# Altium integrated library ON Semi Signal Management Ambient Light Sensors.IntLib: 9 symbols
Pins are listed as number, name and electrical type; pins without a type are passive.

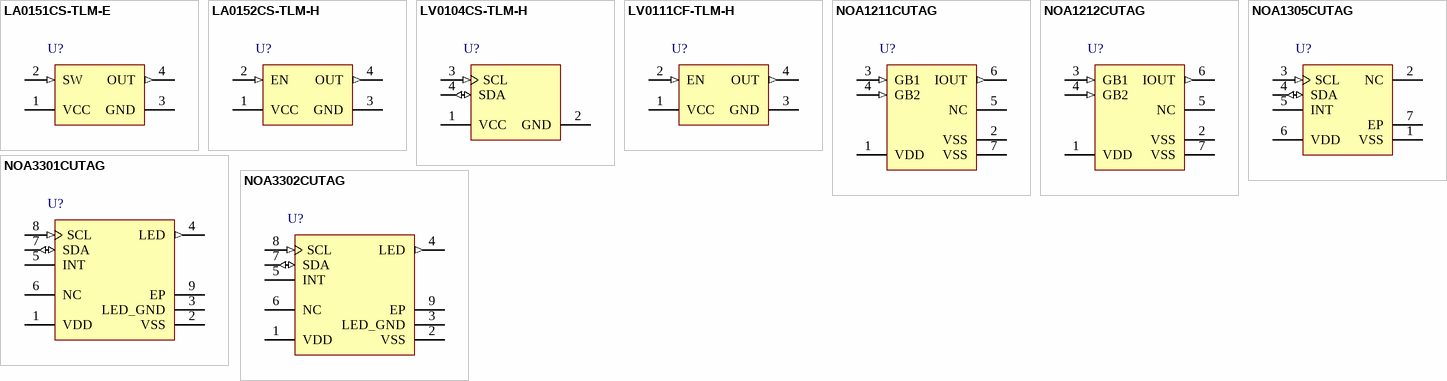
[diagram p0: symbols LA0151CS-TLM-E to NOA3302CUTAG]

## LA0151CS-TLM-E
designator U?
Photo IC for Ultra-Small Illumination Sensor, 2.2 to 5.5 V, -30 to 85 degC, 4-Pin ODCSP, Pb-Free, Tape and Reel; Manufacturer: On Semiconductor; PartNumber: LA0151CS-TLM-E; Output Interface: Analog; Vin Max (V): 5.5; Vin Min (V): 2.2; DatasheetVersion: Rev. 0; PackageVersion: Rev. O, 03/2012; PackageReference: ODCSP-4-570AC; PackageDescription: 4-Pin Chip Scale Package, Body 1.01 x 1.01 mm, Pitch 0.5 mm; Supplier 1: Digi-Key; Supplier Part Number 1: LA0151CS-TLM-E-ND; Supplier 2: Mouser; Supplier Part Number 2: 863-LA0151CS-TLM-E; Packing: Tape and Reel; RoHS: TRUE; Mounting Technology: Surface Mount; ComponentLink1Description: Manufacturer URL; ComponentLink1URL: http://www.onsemi.com/; ComponentLink2Description: Datasheet; ComponentLink2URL: http://www.onsemi.com/pub_link/Collateral/LA0151CS-D.PDF; ComponentLink3Description: Package Specification; ComponentLink3URL: http://www.onsemi.com/pub_link/Collateral/570AC.PDF
footprint ONSC-ODCSP-4-570AC (BGA, 4-Balls, Body 1.01x1.01mm, Pitch 0.5mm)
pins: 1 VCC (power) "Power supply", 2 SW (in) "Switch", 3 GND (power) "Ground", 4 OUT (out) "Output"

## LA0152CS-TLM-H
designator U?
Photo IC for Ultra-Small Illumination Sensor, 2.2 to 5.5 V, -30 to 85 degC, 4-Pin ODCSP, Pb-Free, Tape and Reel; Manufacturer: On Semiconductor; PartNumber: LA0152CS-TLM-H; Output Interface: Analog; Vin Max (V): 5.5; Vin Min (V): 2.2; DatasheetVersion: Rev. 0; PackageVersion: Rev. O, 03/2012; PackageReference: ODCSP-4-570AC; PackageDescription: 4-Pin Chip Scale Package, Body 1.01 x 1.01 mm, Pitch 0.5 mm; Supplier 1: Digi-Key; Supplier Part Number 1: LA0152CS-TLM-H-ND; Supplier 2: Mouser; Supplier Part Number 2: 863-LA0152CS-TLM-H; Packing: Tape and Reel; RoHS: TRUE; Mounting Technology: Surface Mount; ComponentLink1Description: Manufacturer URL; ComponentLink1URL: http://www.onsemi.com/; ComponentLink2Description: Datasheet; ComponentLink2URL: http://www.onsemi.com/pub_link/Collateral/LA0152CS-D.PDF; ComponentLink3Description: Package Specification; ComponentLink3URL: http://www.onsemi.com/pub_link/Collateral/570AC.PDF
footprint ONSC-ODCSP-4-570AC (BGA, 4-Balls, Body 1.01x1.01mm, Pitch 0.5mm)
pins: 1 VCC (power) "Power supply", 2 EN (in) "Enable", 3 GND (power) "Ground", 4 OUT (out) "Output"

## LV0104CS-TLM-H
designator U?
Halogen-Free Digital Ambient Light Sensor, 2.3 to 3.6 V, -30 to 85 degC, 4-Pin ODCSP, Pb-Free, Tape and Reel; Manufacturer: On Semiconductor; PartNumber: LV0104CS-TLM-H; Output Interface: I2C; Vin Max (V): 3.6; Vin Min (V): 2.3; DatasheetVersion: Rev. 0; PackageVersion: Rev. O, 03/2012; PackageReference: ODCSP-4-570AK; PackageDescription: 4-Pin Chip Scale Package, Body 1.08 x 1.08 mm, Pitch 0.5 mm; Supplier 1: Newark; Supplier Part Number 1: 56W6733; Supplier 2: Mouser; Supplier Part Number 2: 863-LV0104CS-TLM-H; Packing: Tape and Reel; RoHS: TRUE; Mounting Technology: Surface Mount; ComponentLink1Description: Manufacturer URL; ComponentLink1URL: http://www.onsemi.com/; ComponentLink2Description: Datasheet; ComponentLink2URL: http://www.onsemi.com/pub_link/Collateral/ENA2079-D.PDF; ComponentLink3Description: Package Specification; ComponentLink3URL: http://www.onsemi.com/pub_link/Collateral/570AK.PDF
footprint ONSC-ODCSP-4-570AK (BGA, 4-Balls, Body 1.08x1.08mm, Pitch 0.5mm)
pins: 1 VCC (power) "Supply voltage pin", 2 GND (power) "GND pin", 3 SCL (in) "I2C serial clock", 4 SDA (io) "I2C serial data"

## LV0111CF-TLM-H
designator U?
Photo IC for Micro-Sized Illumination Sensor, 2.3 to 5.5 V, -30 to 85 degC, 4-Pin ODCSP, Pb-Free, Tape and Reel; Manufacturer: On Semiconductor; PartNumber: LV0111CF-TLM-H; Output Interface: Analog; Vin Max (V): 5.5; Vin Min (V): 2.3; DatasheetVersion: Rev. 0; PackageVersion: Rev. O, 03/2012; PackageReference: ODCSP-4-570AD; PackageDescription: 4-Pin Chip Scale Package, Body 1.08 x 1.08 mm, Pitch 0.5 mm; Supplier 1: Mouser; Supplier Part Number 1: 863-LV0111CF-TLM-H; Packing: Tape and Reel; RoHS: TRUE; Mounting Technology: Surface Mount; ComponentLink1Description: Manufacturer URL; ComponentLink1URL: http://www.onsemi.com/; ComponentLink2Description: Datasheet; ComponentLink2URL: http://www.onsemi.com/pub_link/Collateral/LV0111CF-D.PDF; ComponentLink3Description: Package Specification; ComponentLink3URL: http://www.onsemi.com/pub_link/Collateral/570AD.PDF
footprint ONSC-ODCSP-4-570AD (BGA, 4-Balls, Body 1.08x1.08mm, Pitch 0.5mm)
pins: 1 VCC (power) "Power supply", 2 EN (in) "Enable", 3 GND (power) "Ground", 4 OUT (out) "Output"

## NOA1211CUTAG
designator U?
Ambient Light Sensor with Dark Current Compensation, 2 to 5.5 V, -40 to 85 degC, 6-Pin CUDFN, Pb-Free, Tape and Reel; Manufacturer: On Semiconductor; PartNumber: NOA1211CUTAG; Output Interface: Analog; Vin Max (V): 5.5; Vin Min (V): 2; DatasheetVersion: Rev. 0; PackageVersion: Rev. B, 05/2010; PackageReference: CUDFN-6-505AE-01; PackageDescription: 6-Pin Small Outline No-Lead, Body 1.6 x 1.6 mm, Pitch 0.5 mm; Supplier 1: Newark; Supplier Part Number 1: 97W6343; Supplier 2: Mouser; Supplier Part Number 2: 863-NOA1211CUTAG; Packing: Tape and Reel; RoHS: TRUE; Mounting Technology: Surface Mount; ComponentLink1Description: Manufacturer URL; ComponentLink1URL: http://www.onsemi.com/; ComponentLink2Description: Datasheet; ComponentLink2URL: http://www.onsemi.com/pub_link/Collateral/NOA1211-D.PDF; ComponentLink3Description: Package Specification; ComponentLink3URL: http://www.onsemi.com/pub_link/Collateral/505AE.PDF
footprint ONSC-CUDFN-6-505AE-01_V (SON, 6-Leads, Body 1.6x1.6mm, Pitch 0.5mm, Thermal Pad 1.2x0.6mm)
pins: 1 VDD (power) "Power pin.", 2 VSS (power) "Ground pin.", 3 GB1 (in) "In conjunction with GB2, selects between two gain modes and power down.", 4 GB2 (in) "In conjunction with GB1, selects between two gain modes and power down.", 5 NC "Not connected. This may be connected to ground or left floating.", 6 IOUT (out) "Analog current output.", 7 VSS (power) "Exposed pad, internally connected to ground. Should be connected to ground."

## NOA1212CUTAG
designator U?
Ambient Light Sensor with Dark Current Compensation, 2 to 5.5 V, -40 to 85 degC, 6-Pin CUDFN, Pb-Free, Tape and Reel; Manufacturer: On Semiconductor; PartNumber: NOA1212CUTAG; Output Interface: Analog; Vin Max (V): 5.5; Vin Min (V): 2; DatasheetVersion: Rev. 1; PackageVersion: Rev. B, 05/2010; PackageReference: CUDFN-6-505AE-01; PackageDescription: 6-Pin Small Outline No-Lead, Body 1.6 x 1.6 mm, Pitch 0.5 mm; Supplier 1: Mouser; Supplier Part Number 1: 863-NOA1212CUTAG; Packing: Tape and Reel; RoHS: TRUE; Mounting Technology: Surface Mount; ComponentLink1Description: Manufacturer URL; ComponentLink1URL: http://www.onsemi.com/; ComponentLink2Description: Datasheet; ComponentLink2URL: http://www.onsemi.com/pub_link/Collateral/NOA1212-D.PDF; ComponentLink3Description: Package Specification; ComponentLink3URL: http://www.onsemi.com/pub_link/Collateral/505AE.PDF
footprint ONSC-CUDFN-6-505AE-01_V (SON, 6-Leads, Body 1.6x1.6mm, Pitch 0.5mm, Thermal Pad 1.2x0.6mm)
pins: 1 VDD (power) "Power pin.", 2 VSS (power) "Ground pin.", 3 GB1 (in) "In conjunction with GB2, selects between two gain modes and power down.", 4 GB2 (in) "In conjunction with GB1, selects between two gain modes and power down.", 5 NC "Not connected. This may be connected to ground or left floating.", 6 IOUT (out) "Analog current output.", 7 VSS (power) "Exposed pad, internally connected to ground. Should be connected to ground."

## NOA1305CUTAG
designator U?
Ambient Light Sensor with I2C Interface and Dark Current Compensation, 2.4 to 3.6 V, -40 to 85 degC, 6-Pin CUDFN, Pb-Free, Tape and Reel; Manufacturer: On Semiconductor; PartNumber: NOA1305CUTAG; Vin Max (V): 3.6; Vin Min (V): 2.4; DatasheetVersion: Rev. 0; PackageVersion: Rev. B, 04/2010; PackageReference: CUDFN-6-505AD-01; PackageDescription: 6-Pin Small Outline No-Lead, Body 2 x 2 mm, Pitch 0.65 mm; Supplier 1: Newark; Supplier Part Number 1: 68X4301; Output Interface: I2C; Packing: Tape and Reel; RoHS: TRUE; Mounting Technology: Surface Mount; ComponentLink1Description: Manufacturer URL; ComponentLink1URL: http://www.onsemi.com/; ComponentLink2Description: Datasheet; ComponentLink2URL: http://www.onsemi.com/pub_link/Collateral/NOA1305-D.PDF; ComponentLink3Description: Package Specification; ComponentLink3URL: http://www.onsemi.com/pub_link/Collateral/505AD.PDF
footprint ONSC-CUDFN-6-505AD-01_V (SON, 6-Leads, Body 2x2mm, Pitch 0.65mm, Thermal Pad 1.7x1mm)
pins: 1 VSS (power) "Ground pin.", 2 NC "No connection.", 3 SCL (in) "External I2C clock supplied by the I2C master. Requires a 1kohm pull?up resistor.", 4 SDA (io) "Bi?directional data signal for communications between this device and the I2C master. Requires a 1 kohm pull?up resistor.", 5 INT (oc) "Interrupt request to the host. Programmable active state, open?drain output and requires an external 1 kohm pull?up resistor.", 6 VDD (power) "Power pin.", 7 EP

## NOA3301CUTAG
designator U?
Digital Proximity Sensor with Ambient Light Sensor and Interrupt, 2.3 to 3.6 V, -40 to 80 degC, 8-Pin CUDFN, Pb-Free, Tape and Reel; Manufacturer: On Semiconductor; PartNumber: NOA3301CUTAG; Output Interface: I2C; Vin Max (V): 3.6; Vin Min (V): 2.3; DatasheetVersion: Rev. 2; PackageVersion: Rev. O, 01/2011; PackageReference: CUDFN-8-505AF-01; PackageDescription: 8-Pin Small Outline No-Lead, Body 2 x 2 mm, Pitch 0.5 mm; Supplier 1: Newark; Supplier Part Number 1: 60W1776; Supplier 2: Mouser; Supplier Part Number 2: 863-NOA3301CUTAG; Packing: Tape and Reel; RoHS: TRUE; Mounting Technology: Surface Mount; ComponentLink1Description: Manufacturer URL; ComponentLink1URL: http://www.onsemi.com/; ComponentLink2Description: Datasheet; ComponentLink2URL: http://www.onsemi.com/pub_link/Collateral/NOA3301-D.PDF; ComponentLink3Description: Package Specification; ComponentLink3URL: http://www.onsemi.com/pub_link/Collateral/505AF.PDF
footprint ONSC-CUDFN-8-505AF-01_V (SON, 8-Leads, Body 2x2mm, Pitch 0.5mm, Thermal Pad 1.7x1mm)
pins: 1 VDD (power) "Power pin.", 2 VSS (power) "Ground pin.", 3 LED_GND (power) "Ground pin for IR LED driver.", 4 LED (out) "IR LED output pin.", 5 INT (oc) "Interrupt output pin, open-drain.", 6 NC "Not connected.", 7 SDA (io) "Bi-directional data signal for communications with the I2C master.", 8 SCL (in) "External I2C clock supplied by the I2C master.", 9 EP

## NOA3302CUTAG
designator U?
Digital Proximity Sensor with Ambient Light Sensor and Interrupt, 2.3 to 3.6 V, -40 to 80 degC, 8-Pin CWDFN, Pb-Free, Tape and Reel; Manufacturer: On Semiconductor; PartNumber: NOA3302CUTAG; Output Interface: I2C; Vin Max (V): 3.6; Vin Min (V): 2.3; DatasheetVersion: Rev. 1; PackageVersion: Rev. O, 01/2013; PackageReference: CWDFN-8-505AJ; PackageDescription: 8-Pin Small Outline No-Lead, Body 2 x 2 mm, Pitch 0.5 mm; Supplier 1: Newark; Supplier Part Number 1: 60W1777; Supplier 2: Mouser; Supplier Part Number 2: 863-NOA3302CUTAG; Packing: Tape and Reel; RoHS: TRUE; Mounting Technology: Surface Mount; ComponentLink1Description: Manufacturer URL; ComponentLink1URL: http://www.onsemi.com/; ComponentLink2Description: Datasheet; ComponentLink2URL: http://www.onsemi.com/pub_link/Collateral/NOA3302-D.PDF; ComponentLink3Description: Package Specification; ComponentLink3URL: http://www.onsemi.com/pub_link/Collateral/505AJ.PDF
footprint ONSC-CWDFN-8-505AJ_V (SON, 8-Leads, Body 2x2mm, Pitch 0.5mm, Thermal Pad 1.7x1mm)
pins: 1 VDD (power) "Power pin.", 2 VSS (power) "Ground pin.", 3 LED_GND (power) "Ground pin for IR LED driver.", 4 LED (out) "IR LED output pin.", 5 INT (oc) "Interrupt output pin, open-drain.", 6 NC "Not connected.", 7 SDA (io) "Bi-directional data signal for communications with the I2C master.", 8 SCL (in) "External I2C clock supplied by the I2C master.", 9 EP